# Altium footprint library LFPAK.PcbLib: 1 footprints
Each footprint in its own frame and in the unit in brackets; x right, y up, seen from the top. Pads: shape width x height; smd on the part's side, far side on the other; paste and mask are expansions set on the pad; w line width, h text height; cw(c..) or ccw(c..) is an arc to the next point about the centre after c.
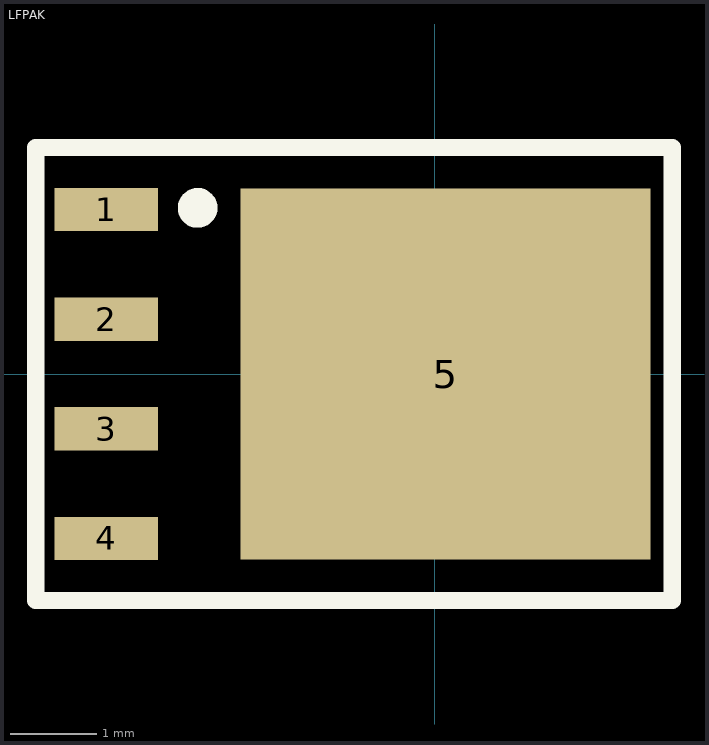
[diagram p0: the footprint, top view; thin cyan lines are the x and y axes]

## LFPAK [mm]
pads (5):
  rect 1.2x0.5 smd: 1(-3.81,1.905) 2(-3.81,0.635) 3(-3.81,-0.635) 4(-3.81,-1.905)
  rect 4.75x4.3 smd: 5(0.125,0)
Top Overlay:
  circle w0.254: c-2.75,1.925 r0.103
  lines w0.2: -4.625,-2.625 2.75,-2.625 2.75,2.625 -4.625,2.625 -4.625,-2.625
3D body "LFPAK.step": height 1.1, standoff 0, extent -4.05,-2.45 1.95,2.45